# Altium schematic symbol library BT139-600E_127.SchLib: 1 symbol
Pins are listed as number, name and electrical type; pins without a type are passive.

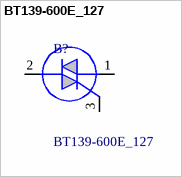
[diagram p0: symbol BT139-600E_127]

## BT139-600E_127
designator B?
Triacs RAIL TRIAC; Manufacturer_Name: WeEn Semiconductors; Manufacturer_Part_Number: BT139-600E,127; Geometry.Height: 4.7mm; Mouser Part Number: 771-BT139-600E127; Mouser Price/Stock: https://www.mouser.co.uk/ProductDetail/WeEn-Semiconductors/BT139-600E127?qs=me8TqzrmIYU78FBWg3nQmw%3D%3D; Datasheet Link: *
footprint TO254P470X1000X2000-3P
pins: 1 MT1, 2 MT2, 3 G